# Altium integrated library ToponLib.IntLib: 3 symbols
Pins are listed as number, name and electrical type; pins without a type are passive.

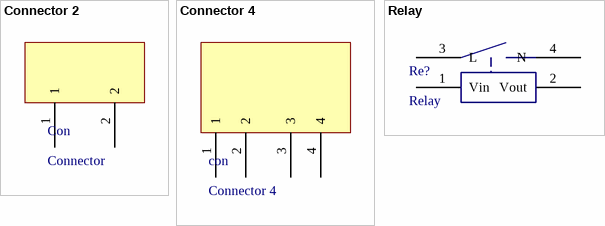
[diagram p0: symbols Connector 2 to Relay]

## Connector 2
designator Con, comment Connector
footprint Terminal 2
pins: 1, 2

## Connector 4
designator con
footprint Terminal 4
pins: 1, 2, 3, 4

## Relay
designator Re?
footprint RLY-HF152F (Relay)
pins: 1 Vin, 2 Vout, 3 L, 4 N